# Altium schematic symbol library T498X476K035ATE500.SchLib: 2 symbols
Pins are listed as number, name and electrical type; pins without a type are passive.

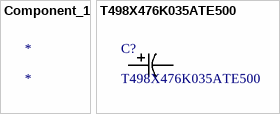
[diagram p0: symbols Component_1 to T498X476K035ATE500]

## Component_1
designator *

## T498X476K035ATE500
designator C?
47 µF Molded Tantalum Capacitors 35 V 2917 (7343 Metric) 500mOhm; Mfr_Name: Kemet; Type: DEV; Copyright: Copyright (C) 2023 Ultra Librarian. All rights reserved.; Manufacturer_Part_Number: T498X476K035ATE500; Digi-Key_Part_Number_1: 399-11397-2-ND; Digi-Key_Part_Number_2: 399-11397-1-ND; Digi-Key_Part_Number_3: 399-11397-6-ND; RefDes: RefDes
footprint CAPMP7.6X4.3_4.3N_KEM-M
pins: 1, 2